# Altium schematic symbol library bio_components.SchLib: 2 symbols
Pins are listed as number, name and electrical type; pins without a type are passive.

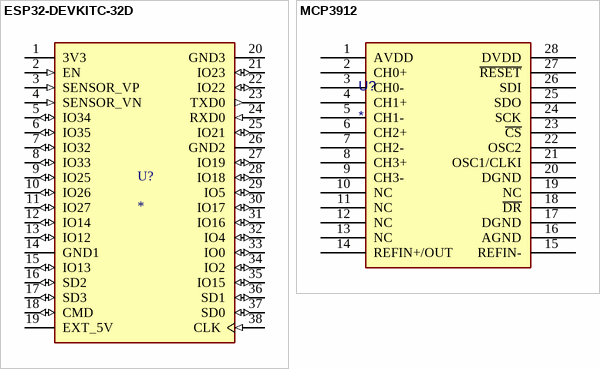
[diagram p0: symbols ESP32-DEVKITC-32D to MCP3912]

## ESP32-DEVKITC-32D
designator U?
EVAL BOARD FOR ESP-WROOM-32; MP: ESP32-DEVKITC-32D; MF: Espressif Systems; Value: *; Price: None; Check_prices: https://www.snapeda.com/parts/ESP32-DEVKITC-32D/Espressif%20Systems/view-part/2777395/?ref=eda; SnapEDA_Link: https://www.snapeda.com/parts/ESP32-DEVKITC-32D/Espressif%20Systems/view-part/2777395/?ref=snap; Availability: Warning; Purchase-URL: https://pricing.snapeda.com/search/part/ESP32-DEVKITC-32D/?ref=eda; Package: None
footprint MODULE_ESP32-DEVKITC-32D
pins: 1 3V3 (power), 2 EN (in), 3 SENSOR_VP (in), 4 SENSOR_VN (in), 5 IO34 (io), 6 IO35 (io), 7 IO32 (io), 8 IO33 (io), 9 IO25 (io), 10 IO26 (io), 11 IO27 (io), 12 IO14 (io), 13 IO12 (io), 14 GND1 (power), 15 IO13 (io), 16 SD2 (io), 17 SD3 (io), 18 CMD (io), 19 EXT_5V (power), 20 GND3 (power), 21 IO23 (io), 22 IO22 (io), 23 TXD0 (out), 24 RXD0 (in), 25 IO21 (io), 26 GND2 (power), 27 IO19 (io), 28 IO18 (io), 29 IO5 (io), 30 IO17 (io), 31 IO16 (io), 32 IO4 (io), 33 IO0 (io), 34 IO2 (io), 35 IO15 (io), 36 SD1 (io), 37 SD0 (io), 38 CLK (in)

## MCP3912
designator U?
footprint TI SSOP-24 DB (SSOP, 24-Leads, Body 8.20x5.30mm, Pitch 0.65mm, IPC Medium Density)
pins: 1 AVDD, 2 CH0+, 3 CH0-, 4 CH1+, 5 CH1-, 6 CH2+, 7 CH2-, 8 CH3+, 9 CH3-, 10 NC, 11 NC, 12 NC, 13 NC, 14 REFIN+/OUT, 15 REFIN-, 16 AGND, 17 DGND, 18 ~{DR}, 19 NC, 20 DGND, 21 OSC1/CLKI, 22 OSC2, 23 ~{CS}, 24 SCK, 25 SDO, 26 SDI, 27 ~{RESET}, 28 DVDD